# Altium schematic symbol library Schemasymbole.SchLib: 2 symbols
Pins are listed as number, name and electrical type; pins without a type are passive.

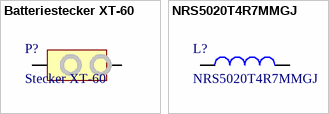
[diagram p0: symbols Batteriestecker XT-60 to NRS5020T4R7MMGJ]

## Batteriestecker XT-60
designator P?, comment Stecker XT-60
footprint Batteriestecker XT-60 (XT-60)
pins: 1, 2

## NRS5020T4R7MMGJ
designator L?
Tayo Yuden NRS5020T4R7MMGJ 4u7 2A
footprint NRS5024T4R7MMGJV
pins: 1, 2